# Altium schematic symbol library Schlib1.SchLib: 9 symbols
Pins are listed as number, name and electrical type; pins without a type are passive.

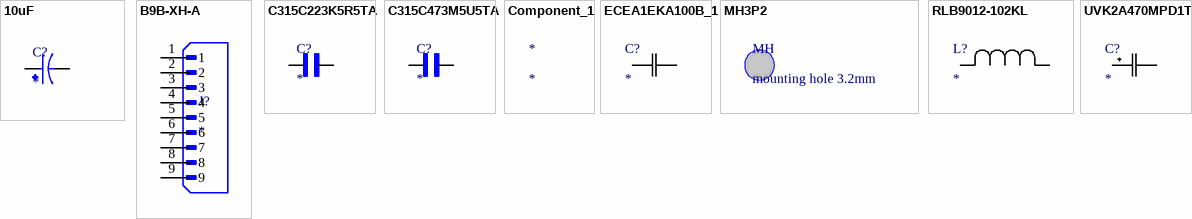
[diagram p0: symbols 10uF to UVK2A470MPD1TD]

## 10uF
designator C?
Cap Aluminum Lytic 10uF 25V 20% (4 X 7mm) Radial 5mm 28mA 1000h 85Â°C Ammo Pack; MP: ECEA1EKA100B; MF: Panasonic; Package: RADIAL-2 Panasonic; Check_prices: https://www.snapeda.com/parts/ECEA1EKA100B/Panasonic/view-part/5784962/?ref=eda; Value: *; Price: None; Availability: No availability data; SnapEDA_Link: https://www.snapeda.com/parts/ECEA1EKA100B/Panasonic/view-part/5784962/?ref=snap
footprint CAPPRD500W45D400H700
footprint 10uF
footprint 10uF
pins: N, P

## B9B-XH-A
designator J?
MF: {'manufacturer': u'JST Sales America Inc.'}; MP: B9B-XH-A; Package: None; Price: None; Value: *; Availability: Unavailable
footprint JST_B9B-XH-A
footprint JST_B9B-XH-A
pins: 1, 2, 3, 4, 5, 6, 7, 8, 9

## C315C223K5R5TA
designator C?
315 C 22nF Ceramic Multilayer Capacitor, 50 VDC, +125degC, X7R Dielec, +/-10% | KEMET C315C223K5R5TA; SnapEDA_Link: https://www.snapeda.com/parts/C315C223K5R5TA/KEMET/view-part/?ref=snap; Package: Radial Kemet; Value: *; MF: KEMET; MP: C315C223K5R5TA; Check_prices: https://www.snapeda.com/parts/C315C223K5R5TA/KEMET/view-part/?ref=eda
footprint CAPRR254W54L381T254H466
footprint CAPRR254W54L381T254H466
pins: 1, 2

## C315C473M5U5TA
designator C?
315 C 47nF Ceramic Multilayer Capacitor, 50 VDC, +85degC, Z5U Dielectric, +/-20% | KEMET C315C473M5U5TA; SnapEDA_Link: https://www.snapeda.com/parts/C315C473M5U5TA/KEMET/view-part/?ref=snap; Package: Radial Kemet; Value: *; MF: KEMET; MP: C315C473M5U5TA; Check_prices: https://www.snapeda.com/parts/C315C473M5U5TA/KEMET/view-part/?ref=eda
footprint CAPRR254W54L381T254H466
footprint CAPRR254W54L381T254H466 - duplicate
pins: 1, 2

## Component_1
designator *

## ECEA1EKA100B_1
designator C?
No Description Available; Mfr_Name: Panasonic
footprint CAP_PAN_4X7_PAN
footprint CAP_PAN_4X7_PAN
pins: 1, 2

## MH3P2
designator MH, comment mounting hole 3.2mm
footprint MH

## RLB9012-102KL
designator L?
No Description Available; Mfr_Name: Bourns Electronics
footprint IND_BOURNS_RLB9012
footprint IND_BOURNS_RLB9012
pins: 1, 2

## UVK2A470MPD1TD
designator C?
No Description Available; Mfr_Name: Nichicon
footprint CAP_UBT_8X11P5_NCH
footprint 3
pins: 1, 2